# Altium footprint library RF_Module.PcbLib: 3 footprints
Each footprint in its own frame and in the unit in brackets; x right, y up, seen from the top. Pads: shape width x height; smd on the part's side, far side on the other; paste and mask are expansions set on the pad; w line width, h text height; cw(c..) or ccw(c..) is an arc to the next point about the centre after c.
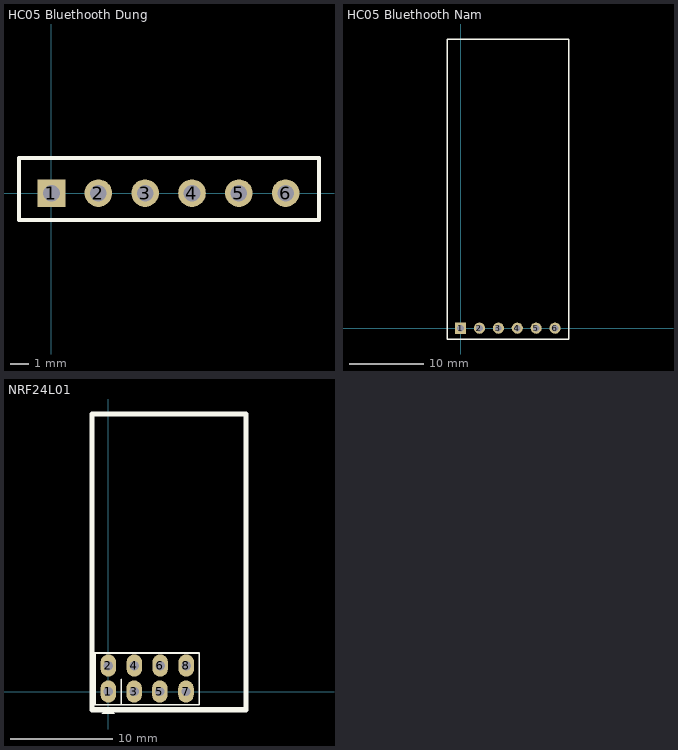
[diagram p0: the footprints below, top view; thin cyan lines are the x and y axes]

## HC05 Bluethooth Dung [mm] "Connector; Header; 6 Position"
height 1.14
pads (6):
  rect 1.5x1.5 hole 0.9: 1(0,0)
  round 1.5 hole 0.9: 2(2.54,0) 3(5.08,0) 4(7.62,0) 5(10.16,0) 6(12.7,0)
Top Overlay:
  lines w0.2: -1.763,-1.455 14.511,-1.455 14.511,1.905 -1.763,1.905 -1.763,-1.455
3D body "female_header_a-bl254-eg-g06d.stp": height 7.92, standoff -3.78, extent -1.395,-1.237 14.095,1.263
3D body "User Library-blue.STEP": height 38, standoff -1.42, extent -1.649,-3.556 14.351,1.239

## HC05 Bluethooth Nam [mm] "Connector; Header; 6 Position"
height 1.14
pads (6):
  rect 1.5x1.5 hole 0.9: 1(0,0)
  round 1.5 hole 0.9: 2(2.54,0) 3(5.08,0) 4(7.62,0) 5(10.16,0) 6(12.7,0)
Top Overlay:
  lines w0.2: -1.763,-1.455 -1.763,38.862 14.511,38.862 14.511,-1.455 -1.763,-1.455
3D body "User Library-blue.STEP": height 4.05, standoff -0.75, extent -1.522,-0.635 14.478,38.784

## NRF24L01 [mil]
pads (8):
  oval 60x86 hole 36: 1(0,0) 2(0,100) 3(99,0) 4(100,100) 5(198,0) 6(199.5,100) 7(299,0) 8(300,100)
Top Overlay:
  region: -0.5,-61.5 -25.5,-86.5 24.5,-86.5
  lines w7: 49.5,-50.5 49.5,47.5 ; -51,-51 -51,49 -51,149 350,149 350,-51 -51,-51
  lines w20: -63,-70 -63,1069.2 530,1069.2 530,-70 -63,-70
3D body "User Library-MY-NRF24L01P.STEP": height 587.8, standoff 0.73, extent -73,-73.7 517.55,1068.03